# Altium footprint library Small Outline (~1.27mm Pitch) - 6to20 Leads.PcbLib: 81 footprints (part 4 of 6)
Each footprint in its own frame and in the unit in brackets; x right, y up, seen from the top. Pads: shape width x height; smd on the part's side, far side on the other; paste and mask are expansions set on the pad; w line width, h text height; cw(c..) or ccw(c..) is an arc to the next point about the centre after c.
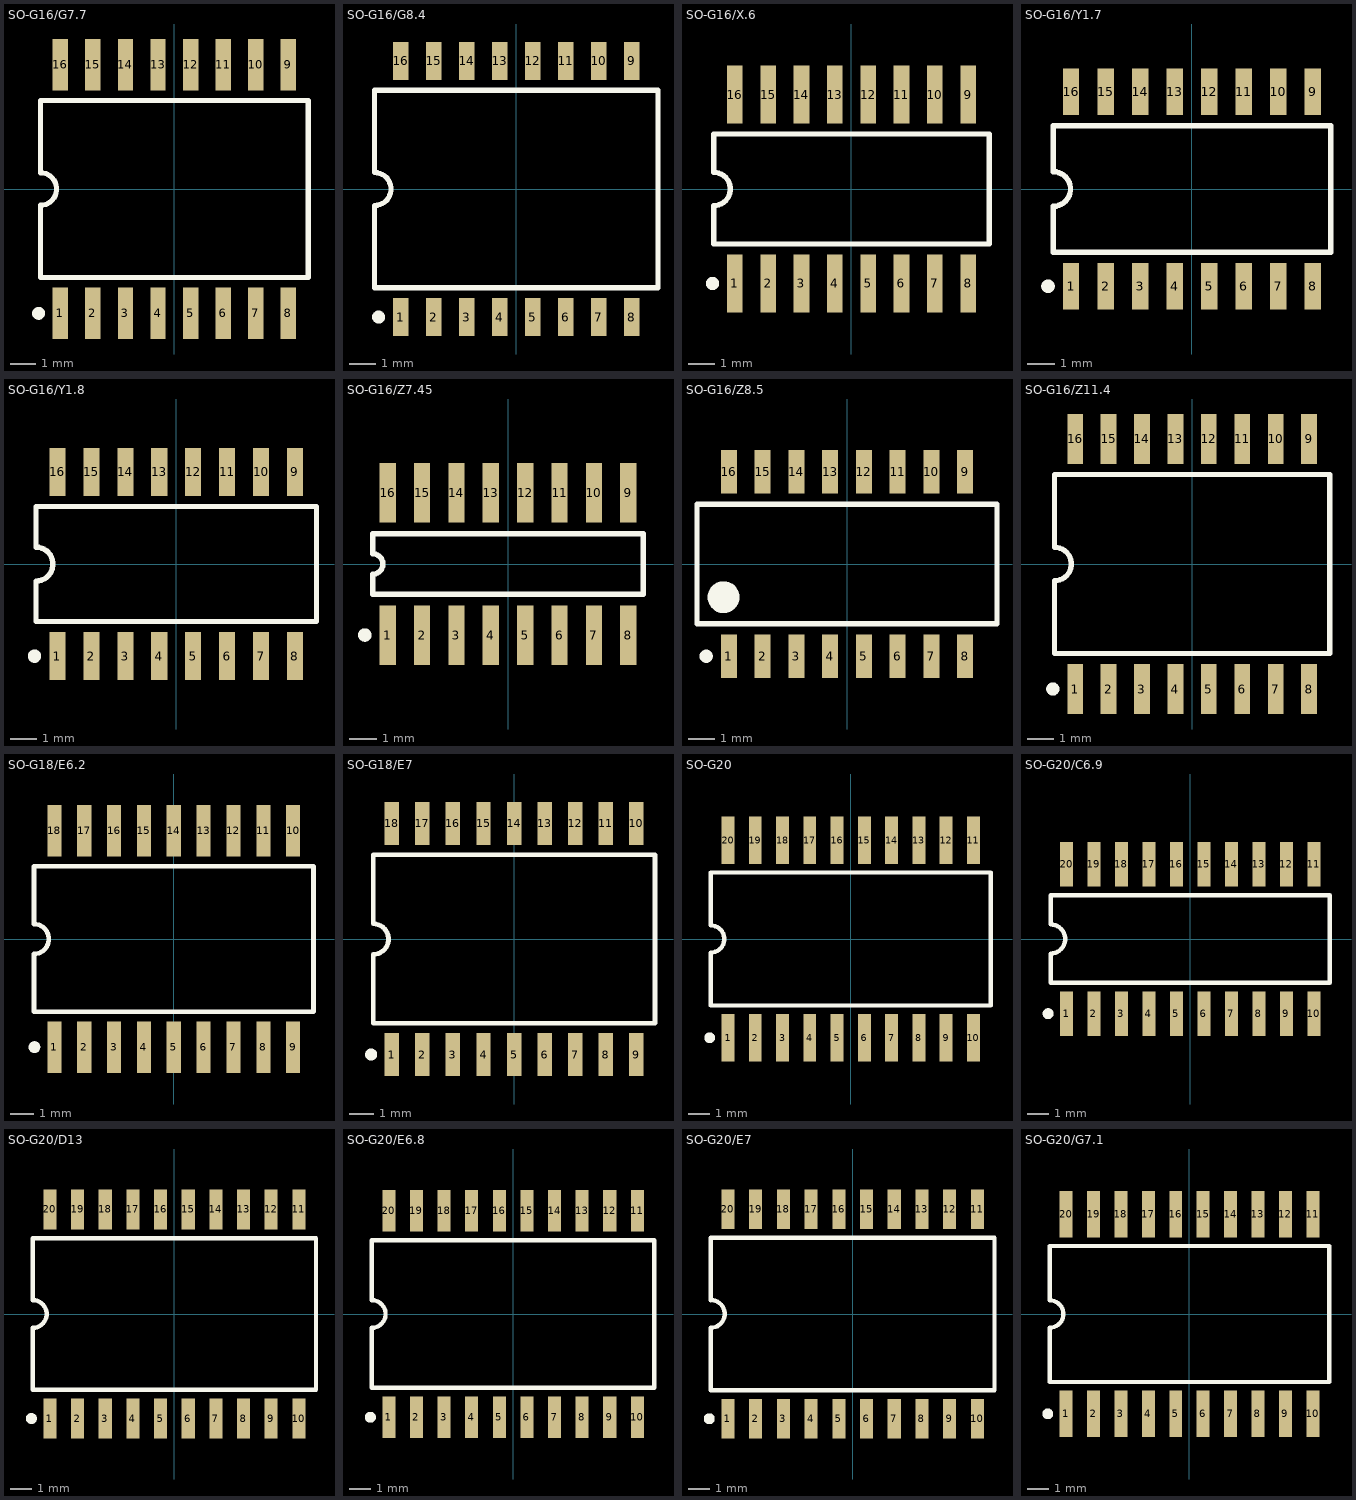
[diagram p3: the footprints below, top view; thin cyan lines are the x and y axes]

## SO-G16/G7.7 [mm] "Small Outline; 16 Leads; Body Width 7.4 mm; Pitch 1.27 mm"
height 2.67
pads (16):
  rect 0.6x2 smd: 1(-4.445,-4.85) 2(-3.175,-4.85) 3(-1.905,-4.85) 4(-0.635,-4.85) 5(0.635,-4.85) 6(1.905,-4.85) 7(3.175,-4.85) 8(4.445,-4.85) 9(4.445,4.85) 10(3.175,4.85) 11(1.905,4.85) 12(0.635,4.85) 13(-0.635,4.85) 14(-1.905,4.85) 15(-3.175,4.85) 16(-4.445,4.85)
Top Overlay:
  circle w0.25: c-5.295,-4.85 r0.125
  lines w0.2: -5.225,-3.45 5.225,-3.45 5.225,3.45 -5.225,3.45 -5.225,0.635 cw(c-5.225,0) -5.225,-0.635 -5.225,-3.45

## SO-G16/G8.4 [mm] "Small Outline; 16 Leads; Body Width 7.5 mm; Pitch 1.27 mm"
height 2.65
pads (16):
  rect 0.6x1.45 smd: 1(-4.445,-4.925) 2(-3.175,-4.925) 3(-1.905,-4.925) 4(-0.635,-4.925) 5(0.635,-4.925) 6(1.905,-4.925) 7(3.175,-4.925) 8(4.445,-4.925) 9(4.445,4.925) 10(3.175,4.925) 11(1.905,4.925) 12(0.635,4.925) 13(-0.635,4.925) 14(-1.905,4.925) 15(-3.175,4.925) 16(-4.445,4.925)
Top Overlay:
  circle w0.25: c-5.295,-4.925 r0.125
  lines w0.2: -5.45,-3.8 5.45,-3.8 5.45,3.8 -5.45,3.8 -5.45,0.635 cw(c-5.45,0) -5.45,-0.635 -5.45,-3.8

## SO-G16/X.6 [mm] "Small Outline; 16 Leads; Body Width 5.3 mm; Pitch 1.27 mm"
height 2
pads (16):
  rect 0.6x2.2 smd: 1(-4.445,-3.6) 2(-3.175,-3.6) 3(-1.905,-3.6) 4(-0.635,-3.6) 5(0.635,-3.6) 6(1.905,-3.6) 7(3.175,-3.6) 8(4.445,-3.6) 9(4.445,3.6) 10(3.175,3.6) 11(1.905,3.6) 12(0.635,3.6) 13(-0.635,3.6) 14(-1.905,3.6) 15(-3.175,3.6) 16(-4.445,3.6)
Top Overlay:
  circle w0.25: c-5.295,-3.6 r0.125
  lines w0.2: -5.25,-2.1 -5.25,-0.635 ccw(c-5.25,0) -5.25,0.635 -5.25,2.1 5.25,2.1 5.25,-2.1 -5.25,-2.1

## SO-G16/Y1.7 [mm] "Small Outline; 16 Leads; Body Width 5.3 mm; Pitch 1.27 mm"
height 2.1
pads (16):
  rect 0.6x1.7 smd: 1(-4.445,-3.575) 2(-3.175,-3.575) 3(-1.905,-3.575) 4(-0.635,-3.575) 5(0.635,-3.575) 6(1.905,-3.575) 7(3.175,-3.575) 8(4.445,-3.575) 9(4.445,3.575) 10(3.175,3.575) 11(1.905,3.575) 12(0.635,3.575) 13(-0.635,3.575) 14(-1.905,3.575) 15(-3.175,3.575) 16(-4.445,3.575)
Top Overlay:
  circle w0.25: c-5.295,-3.575 r0.125
  lines w0.2: -5.1,-2.325 -5.1,-0.635 ccw(c-5.1,0) -5.1,0.635 -5.1,2.325 5.1,2.325 5.1,-2.325 -5.1,-2.325

## SO-G16/Y1.8 [mm] "Small Outline; 16 Leads; Body Width 5.3 mm; Pitch 1.27 mm"
height 2.05
pads (16):
  rect 0.6x1.8 smd: 1(-4.445,-3.45) 2(-3.175,-3.45) 3(-1.905,-3.45) 4(-0.635,-3.45) 5(0.635,-3.45) 6(1.905,-3.45) 7(3.175,-3.45) 8(4.445,-3.45) 9(4.445,3.45) 10(3.175,3.45) 11(1.905,3.45) 12(0.635,3.45) 13(-0.635,3.45) 14(-1.905,3.45) 15(-3.175,3.45) 16(-4.445,3.45)
Top Overlay:
  circle w0.25: c-5.305,-3.45 r0.125
  lines w0.2: -5.25,-0.64 ccw(c-5.25,-0.005) -5.25,0.63 ; -5.25,-0.635 -5.25,-2.15 5.25,-2.15 5.25,2.15 -5.25,2.15 -5.25,0.635

## SO-G16/Z7.45 [mm] "Small Outline; 16 Leads; Body Width 3.9 mm; Pitch 1.27 mm"
height 1.75
pads (16):
  rect 0.6x2.2 smd: 1(-4.445,-2.625) 2(-3.175,-2.625) 3(-1.905,-2.625) 4(-0.635,-2.625) 5(0.635,-2.625) 6(1.905,-2.625) 7(3.175,-2.625) 8(4.445,-2.625) 9(4.445,2.625) 10(3.175,2.625) 11(1.905,2.625) 12(0.635,2.625) 13(-0.635,2.625) 14(-1.905,2.625) 15(-3.175,2.625) 16(-4.445,2.625)
Top Overlay:
  circle w0.25: c-5.295,-2.625 r0.125
  lines w0.2: -5,-1.125 5,-1.125 5,1.125 -5,1.125 -5,0.375 cw(c-5,0) -5,-0.375 -5,-1.125

## SO-G16/Z8.5 [mm] "Small Outline; 16 Leads; Body Width 5.6 mm; Pitch 1.27 mm"
height 2.2
pads (16):
  rect 0.6x1.65 smd: 1(-4.445,-3.475) 2(-3.175,-3.475) 3(-1.905,-3.475) 4(-0.635,-3.475) 5(0.635,-3.475) 6(1.905,-3.475) 7(3.175,-3.475) 8(4.445,-3.475) 9(4.445,3.475) 10(3.175,3.475) 11(1.905,3.475) 12(0.635,3.475) 13(-0.635,3.475) 14(-1.905,3.475) 15(-3.175,3.475) 16(-4.445,3.475)
Top Overlay:
  circle w0.6: c-4.65,-1.25 r0.3
  circle w0.25: c-5.305,-3.475 r0.125
  lines w0.2: -5.65,-2.25 5.65,-2.25 5.65,2.25 -5.65,2.25 -5.65,-0.635 -5.65,-2.25

## SO-G16/Z11.4 [mm] "Small Outline; 16 Leads; Body Width 7.5 mm; Pitch 1.27 mm"
height 2.67
pads (16):
  rect 0.6x1.9 smd: 1(-4.445,-4.75) 2(-3.175,-4.75) 3(-1.905,-4.75) 4(-0.635,-4.75) 5(0.635,-4.75) 6(1.905,-4.75) 7(3.175,-4.75) 8(4.445,-4.75) 9(4.445,4.75) 10(3.175,4.75) 11(1.905,4.75) 12(0.635,4.75) 13(-0.635,4.75) 14(-1.905,4.75) 15(-3.175,4.75) 16(-4.445,4.75)
Top Overlay:
  circle w0.25: c-5.295,-4.75 r0.125
  lines w0.2: -5.225,-3.4 -5.225,-0.635 ccw(c-5.225,0) -5.225,0.635 -5.225,3.4 5.225,3.4 5.225,-3.4 -5.225,-3.4

## SO-G18/E6.2 [mm] "Small Outline; 18 Leads; Body Width 7.5 mm; Pitch 1.27 mm"
height 2.65
pads (18):
  rect 0.6x2.2 smd: 1(-5.08,-4.6) 2(-3.81,-4.6) 3(-2.54,-4.6) 4(-1.27,-4.6) 5(0,-4.6) 6(1.27,-4.6) 7(2.54,-4.6) 8(3.81,-4.6) 9(5.08,-4.6) 10(5.08,4.6) 11(3.81,4.6) 12(2.54,4.6) 13(1.27,4.6) 14(0,4.6) 15(-1.27,4.6) 16(-2.54,4.6) 17(-3.81,4.6) 18(-5.08,4.6)
Top Overlay:
  circle w0.25: c-5.93,-4.6 r0.125
  lines w0.2: -5.95,-3.1 5.95,-3.1 5.95,3.1 -5.95,3.1 -5.95,0.635 cw(c-5.95,0) -5.95,-0.635 -5.95,-3.1

## SO-G18/E7 [mm] "Small Outline; 18 Leads; Body Width 7.5 mm; Pitch 1.27 mm"
height 2.65
pads (18):
  rect 0.6x1.8 smd: 1(-5.08,-4.8) 2(-3.81,-4.8) 3(-2.54,-4.8) 4(-1.27,-4.8) 5(0,-4.8) 6(1.27,-4.8) 7(2.54,-4.8) 8(3.81,-4.8) 9(5.08,-4.8) 10(5.08,4.8) 11(3.81,4.8) 12(2.54,4.8) 13(1.27,4.8) 14(0,4.8) 15(-1.27,4.8) 16(-2.54,4.8) 17(-3.81,4.8) 18(-5.08,4.8)
Top Overlay:
  circle w0.25: c-5.94,-4.8 r0.125
  lines w0.2: -5.85,-0.64 ccw(c-5.85,-0.005) -5.85,0.63 ; -5.85,-0.635 -5.85,-3.5 5.85,-3.5 5.85,3.5 -5.85,3.5 -5.85,0.635

## SO-G20 [mm] "Small Outline; 20 Leads; Body Width 7.5 mm; Pitch 1.27 mm"
height 2.65
pads (20):
  rect 0.6x2.2 smd: 1(-5.715,-4.6) 2(-4.445,-4.6) 3(-3.175,-4.6) 4(-1.905,-4.6) 5(-0.635,-4.6) 6(0.635,-4.6) 7(1.905,-4.6) 8(3.175,-4.6) 9(4.445,-4.6) 10(5.715,-4.6) 11(5.715,4.6) 12(4.445,4.6) 13(3.175,4.6) 14(1.905,4.6) 15(0.635,4.6) 16(-0.635,4.6) 17(-1.905,4.6) 18(-3.175,4.6) 19(-4.445,4.6) 20(-5.715,4.6)
Top Overlay:
  circle w0.25: c-6.565,-4.6 r0.125
  lines w0.2: -6.525,-3.1 -6.525,-0.635 ccw(c-6.525,0) -6.525,0.635 -6.525,3.1 6.525,3.1 6.525,-3.1 -6.525,-3.1

## SO-G20/C6.9 [mm] "Small Outline; 20 Leads; Body Width 5.3 mm; Pitch 1.27 mm"
height 2
pads (20):
  rect 0.6x2.05 smd: 1(-5.715,-3.45) 2(-4.445,-3.45) 3(-3.175,-3.45) 4(-1.905,-3.45) 5(-0.635,-3.45) 6(0.635,-3.45) 7(1.905,-3.45) 8(3.175,-3.45) 9(4.445,-3.45) 10(5.715,-3.45) 11(5.715,3.45) 12(4.445,3.45) 13(3.175,3.45) 14(1.905,3.45) 15(0.635,3.45) 16(-0.635,3.45) 17(-1.905,3.45) 18(-3.175,3.45) 19(-4.445,3.45) 20(-5.715,3.45)
Top Overlay:
  circle w0.25: c-6.565,-3.45 r0.125
  lines w0.2: -6.45,0.675 cw(c-6.45,0) -6.45,-0.675 -6.45,-2.025 6.45,-2.025 6.45,2.025 -6.45,2.025 -6.45,0.675

## SO-G20/D13 [mm] "Small Outline; 20 Leads; Body Width 7.5 mm; Pitch 1.27 mm"
height 2.67
pads (20):
  rect 0.6x1.85 smd: 1(-5.715,-4.8) 2(-4.445,-4.8) 3(-3.175,-4.8) 4(-1.905,-4.8) 5(-0.635,-4.8) 6(0.635,-4.8) 7(1.905,-4.8) 8(3.175,-4.8) 9(4.445,-4.8) 10(5.715,-4.8) 11(5.715,4.8) 12(4.445,4.8) 13(3.175,4.8) 14(1.905,4.8) 15(0.635,4.8) 16(-0.635,4.8) 17(-1.905,4.8) 18(-3.175,4.8) 19(-4.445,4.8) 20(-5.715,4.8)
Top Overlay:
  circle w0.25: c-6.565,-4.8 r0.125
  lines w0.2: -6.5,-3.475 6.5,-3.475 6.5,3.475 -6.5,3.475 -6.5,0.635 cw(c-6.5,0) -6.5,-0.635 -6.5,-3.475

## SO-G20/E6.8 [mm] "Small Outline; 20 Leads; Body Width 7.5 mm; Pitch 1.27 mm"
height 2.67
pads (20):
  rect 0.6x1.9 smd: 1(-5.715,-4.75) 2(-4.445,-4.75) 3(-3.175,-4.75) 4(-1.905,-4.75) 5(-0.635,-4.75) 6(0.635,-4.75) 7(1.905,-4.75) 8(3.175,-4.75) 9(4.445,-4.75) 10(5.715,-4.75) 11(5.715,4.75) 12(4.445,4.75) 13(3.175,4.75) 14(1.905,4.75) 15(0.635,4.75) 16(-0.635,4.75) 17(-1.905,4.75) 18(-3.175,4.75) 19(-4.445,4.75) 20(-5.715,4.75)
Top Overlay:
  circle w0.25: c-6.565,-4.75 r0.125
  lines w0.2: -6.5,-3.4 6.5,-3.4 6.5,3.4 -6.5,3.4 -6.5,0.635 cw(c-6.5,0) -6.5,-0.635 -6.5,-3.4

## SO-G20/E7 [mm] "Small Outline; 20 Leads; Body Width 7.5 mm; Pitch 1.27 mm"
height 2.67
pads (20):
  rect 0.6x1.8 smd: 1(-5.715,-4.8) 2(-4.445,-4.8) 3(-3.175,-4.8) 4(-1.905,-4.8) 5(-0.635,-4.8) 6(0.635,-4.8) 7(1.905,-4.8) 8(3.175,-4.8) 9(4.445,-4.8) 10(5.715,-4.8) 11(5.715,4.8) 12(4.445,4.8) 13(3.175,4.8) 14(1.905,4.8) 15(0.635,4.8) 16(-0.635,4.8) 17(-1.905,4.8) 18(-3.175,4.8) 19(-4.445,4.8) 20(-5.715,4.8)
Top Overlay:
  circle w0.25: c-6.575,-4.8 r0.125
  lines w0.2: -6.5,-0.635 -6.5,-3.5 6.5,-3.5 6.5,3.5 -6.5,3.5 -6.5,0.635 ; -6.5,-0.63 ccw(c-6.5,0.005) -6.5,0.64

## SO-G20/G7.1 [mm] "Small Outline, Plastic; 20 Leads; Body Width 7.5 mm"
height 2.65
pads (20):
  rect 0.6x2.15 smd: 1(-5.715,-4.625) 2(-4.445,-4.625) 3(-3.175,-4.625) 4(-1.905,-4.625) 5(-0.635,-4.625) 6(0.635,-4.625) 7(1.905,-4.625) 8(3.175,-4.625) 9(4.445,-4.625) 10(5.715,-4.625) 11(5.715,4.625) 12(4.445,4.625) 13(3.175,4.625) 14(1.905,4.625) 15(0.635,4.625) 16(-0.635,4.625) 17(-1.905,4.625) 18(-3.175,4.625) 19(-4.445,4.625) 20(-5.715,4.625)
Top Overlay:
  circle w0.25: c-6.565,-4.625 r0.125
  lines w0.2: -6.475,-3.15 6.475,-3.15 6.475,3.15 -6.475,3.15 -6.475,0.635 cw(c-6.475,0) -6.475,-0.635 -6.475,-3.15